# EAGLE library part CYRAS_DRV8838_DSG_8 (library DLOCK_DAUGHTER_CARD_V0.2)
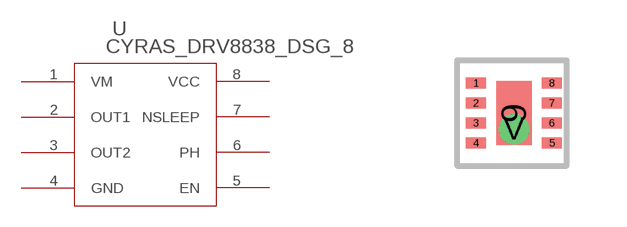
[diagram p2: symbol with the pads of CYRAS_DSG8_P9X1P6; footprint CYRAS_DSG8_P9X1P6]

Designator prefix U

## CYRAS_DRV8838_DSG_8 (MANUFACTURER_PART_NUMBER: drv8838_dsg_8; VENDOR: Texas Instruments)  [CYRAS_DSG8_P9X1P6]
1  VM  pwr
2  OUT1  out
3  OUT2  out
4  GND  pwr
5  EN  in
6  PH  in
7  NSLEEP  in
8  VCC  pwr

## Footprint CYRAS_DSG8_P9X1P6 (pad centres in mm)
smd 0.508 x 0.279: 1 -0.95,0.75; 2 -0.95,0.25; 3 -0.95,-0.25; 4 -0.95,-0.75; 5 0.95,-0.75; 6 0.95,-0.25; 7 0.95,0.25; 8 0.95,0.75
smd 0.889 x 1.6: 9 0,0
drill 0.254: V 0,-0.406